# EAGLE library part LOGIC_4040 (library akita)
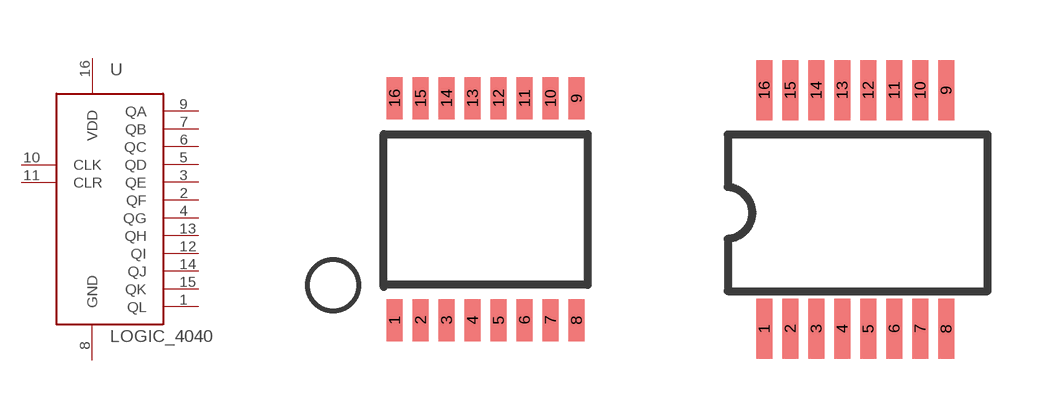
[diagram p49: symbol with the pads of TSSOP16; footprints TSSOP16, SSOP16]

Designator prefix -

## LOGIC_4040  [TSSOP16]
1  QL
2  QF
3  QE
4  QG
5  QD
6  QC
7  QB
8  GND
9  QA
10  CLK
11  CLR
12  QI
13  QH
14  QJ
15  QK
16  VDD

## LOGIC_4040PW  [SSOP16]
Pads as for TSSOP16

## Footprint TSSOP16 (pad centres in mm)
smd 0.4 x 1.05: 1 -2.275,-2.775; 2 -1.625,-2.775; 3 -0.975,-2.775; 4 -0.325,-2.775; 5 0.325,-2.775; 6 0.975,-2.775; 7 1.625,-2.775; 8 2.275,-2.775; 9 2.275,2.775; 10 1.625,2.775; 11 0.975,2.775; 12 0.325,2.775; 13 -0.325,2.775; 14 -0.975,2.775; 15 -1.625,2.775; 16 -2.275,2.775

## Footprint SSOP16 (pad centres in mm)
smd 0.4 x 1.5: 1 -2.335,-2.893; 2 -1.685,-2.893; 3 -1.035,-2.893; 4 -0.385,-2.893; 5 0.265,-2.893; 6 0.915,-2.893; 7 1.565,-2.893; 8 2.215,-2.893; 9 2.215,3.072; 10 1.565,3.072; 11 0.915,3.072; 12 0.265,3.072; 13 -0.385,3.072; 14 -1.035,3.072; 15 -1.685,3.072; 16 -2.335,3.072